# EAGLE library part 1473149-4 (library SamacSys_Parts)
DIMM Connectors .6MM 200D R/SM 1.8V DIMMSO DDR Source: Datasheet <https://www.te.com/commerce/DocumentDelivery/DDEController?Action=srchrtrv&DocNm=1473149&DocType=Customer Drawing&DocLang=English&PartCntxt=1473149-4&DocFormat=pdf>
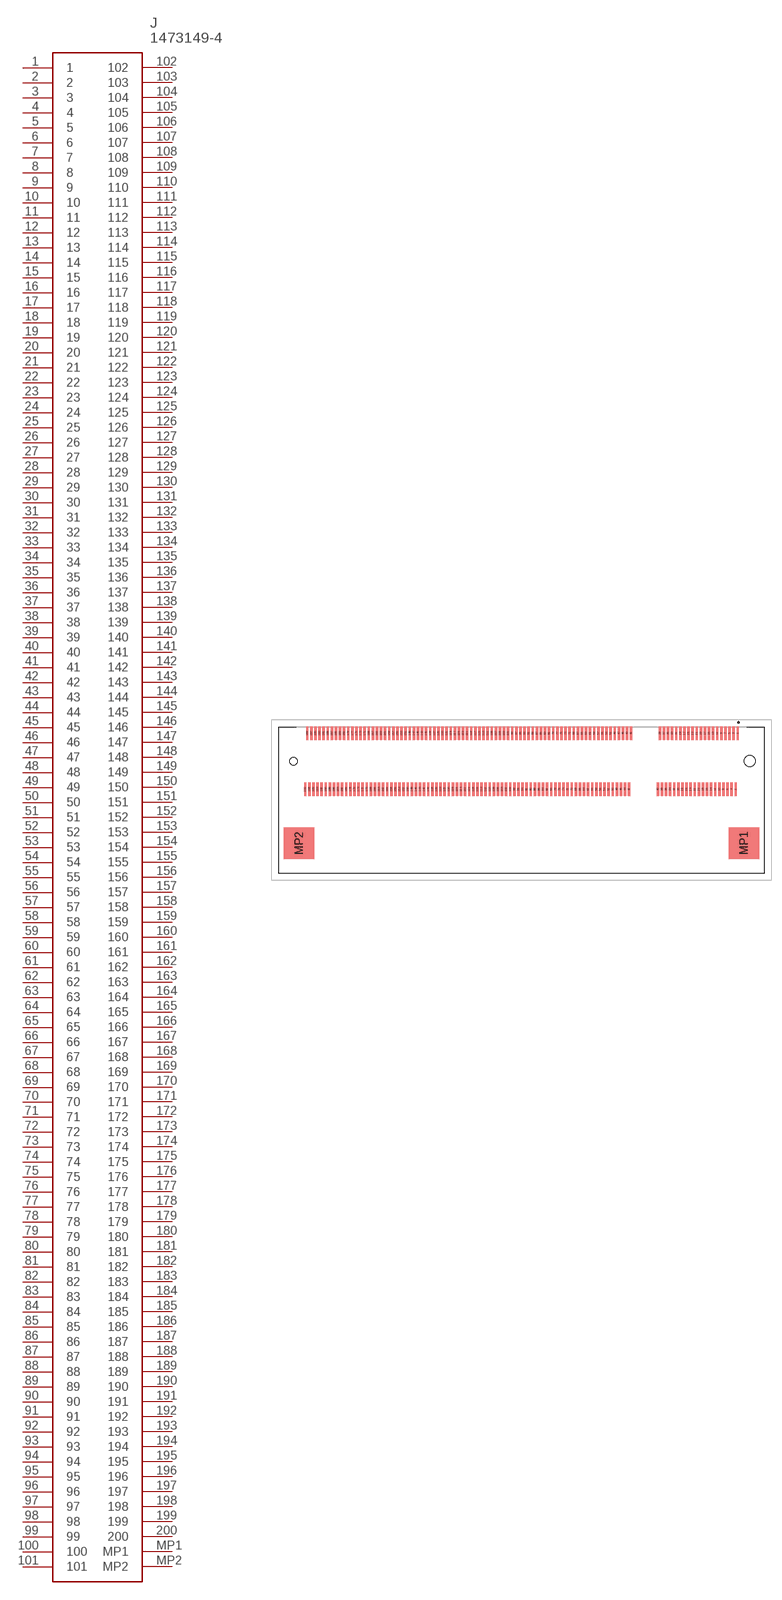
[diagram p197: symbol with the pads of 14731494; footprint 14731494]

Designator prefix J

## 1473149-4 (DESCRIPTION: DIMM Connectors .6MM 200D R/SM 1.8V DIMMSO DDR; HEIGHT: 6.23mm; MANUFACTURER_NAME: TE Connectivity; MANUFACTURER_PART_NUMBER: 1473149-4; MOUSER_PART_NUMBER: 571-1473149-4; MOUSER_PRICE-STOCK: https://www.mouser.co.uk/ProductDetail/TE-Connectivity/1473149-4?qs=iaprbs8w3G8rIdgoS7LsSQ%3D%3D)  [14731494]
1  1
2  2
3  3
4  4
5  5
6  6
7  7
8  8
9  9
10  10
11  11
12  12
13  13
14  14
15  15
16  16
17  17
18  18
19  19
20  20
21  21
22  22
23  23
24  24
25  25
26  26
27  27
28  28
29  29
30  30
31  31
32  32
33  33
34  34
35  35
36  36
37  37
38  38
39  39
40  40
41  41
42  42
43  43
44  44
45  45
46  46
47  47
48  48
49  49
50  50
51  51
52  52
53  53
54  54
55  55
56  56
57  57
58  58
59  59
60  60
61  61
62  62
63  63
64  64
65  65
66  66
67  67
68  68
69  69
70  70
71  71
72  72
73  73
74  74
75  75
76  76
77  77
78  78
79  79
80  80
81  81
82  82
83  83
84  84
85  85
86  86
87  87
88  88
89  89
90  90
91  91
92  92
93  93
94  94
95  95
96  96
97  97
98  98
99  99
100  100
101  101
102  102
103  103
104  104
105  105
106  106
107  107
108  108
109  109
110  110
111  111
112  112
113  113
114  114
115  115
116  116
117  117
118  118
119  119
120  120
121  121
122  122
123  123
124  124
125  125
126  126
127  127
128  128
129  129
130  130
131  131
132  132
133  133
134  134
135  135
136  136
137  137
138  138
139  139
140  140
141  141
142  142
143  143
144  144
145  145
146  146
147  147
148  148
149  149
150  150
151  151
152  152
153  153
154  154
155  155
156  156
157  157
158  158
159  159
160  160
161  161
162  162
163  163
164  164
165  165
166  166
167  167
168  168
169  169
170  170
171  171
172  172
173  173
174  174
175  175
176  176
177  177
178  178
179  179
180  180
181  181
182  182
183  183
184  184
185  185
186  186
187  187
188  188
189  189
190  190
191  191
192  192
193  193
194  194
195  195
196  196
197  197
198  198
199  199
200  200
MP1  MP1
MP2  MP2

## Footprint 14731494 (pad centres in mm)
1473149-4-2
smd 0.35 x 2: 1 31.65,9.825; 2 31.35,1.625; 3 31.05,9.825; 4 30.75,1.625; 5 30.45,9.825; 6 30.15,1.625; 7 29.85,9.825; 8 29.55,1.625; 9 29.25,9.825; 10 28.95,1.625; 11 28.65,9.825; 12 28.35,1.625; 13 28.05,9.825; 14 27.75,1.625; 15 27.45,9.825; 16 27.15,1.625; 17 26.85,9.825; 18 26.55,1.625; 19 26.25,9.825; 20 25.95,1.625; 21 25.65,9.825; 22 25.35,1.625; 23 25.05,9.825; 24 24.75,1.625; 25 24.45,9.825; 26 24.15,1.625; 27 23.85,9.825; 28 23.55,1.625; 29 23.25,9.825; 30 22.95,1.625; 31 22.65,9.825; 32 22.35,1.625; 33 22.05,9.825; 34 21.75,1.625; 35 21.45,9.825; 36 21.15,1.625; 37 20.85,9.825; 38 20.55,1.625; 39 20.25,9.825; 40 19.95,1.625; 41 16.05,9.825; 42 15.75,1.625; 43 15.45,9.825; 44 15.15,1.625; 45 14.85,9.825; 46 14.55,1.625; 47 14.25,9.825; 48 13.95,1.625; 49 13.65,9.825; 50 13.35,1.625; 51 13.05,9.825; 52 12.75,1.625; 53 12.45,9.825; 54 12.15,1.625; 55 11.85,9.825; 56 11.55,1.625; 57 11.25,9.825; 58 10.95,1.625; 59 10.65,9.825; 60 10.35,1.625; 61 10.05,9.825; 62 9.75,1.625; 63 9.45,9.825; 64 9.15,1.625; 65 8.85,9.825; 66 8.55,1.625; 67 8.25,9.825; 68 7.95,1.625; 69 7.65,9.825; 70 7.35,1.625; 71 7.05,9.825; 72 6.75,1.625; 73 6.45,9.825; 74 6.15,1.625; 75 5.85,9.825; 76 5.55,1.625; 77 5.25,9.825; 78 4.95,1.625; 79 4.65,9.825; 80 4.35,1.625; 81 4.05,9.825; 82 3.75,1.625; 83 3.45,9.825; 84 3.15,1.625; 85 2.85,9.825; 86 2.55,1.625; 87 2.25,9.825; 88 1.95,1.625; 89 1.65,9.825; 90 1.35,1.625; 91 1.05,9.825; 92 0.75,1.625; 93 0.45,9.825; 94 0.15,1.625; 95 -0.15,9.825; 96 -0.45,1.625; 97 -0.75,9.825; 98 -1.05,1.625; 99 -1.35,9.825; 100 -1.65,1.625; 101 -1.95,9.825; 102 -2.25,1.625; 103 -2.55,9.825; 104 -2.85,1.625; 105 -3.15,9.825; 106 -3.45,1.625; 107 -3.75,9.825; 108 -4.05,1.625; 109 -4.35,9.825; 110 -4.65,1.625; 111 -4.95,9.825; 112 -5.25,1.625; 113 -5.55,9.825; 114 -5.85,1.625; 115 -6.15,9.825; 116 -6.45,1.625; 117 -6.75,9.825; 118 -7.05,1.625; 119 -7.35,9.825; 120 -7.65,1.625; 121 -7.95,9.825; 122 -8.25,1.625; 123 -8.55,9.825; 124 -8.85,1.625; 125 -9.15,9.825; 126 -9.45,1.625; 127 -9.75,9.825; 128 -10.05,1.625; 129 -10.35,9.825; 130 -10.65,1.625; 131 -10.95,9.825; 132 -11.25,1.625; 133 -11.55,9.825; 134 -11.85,1.625; 135 -12.15,9.825; 136 -12.45,1.625; 137 -12.75,9.825; 138 -13.05,1.625; 139 -13.35,9.825; 140 -13.65,1.625; 141 -13.95,9.825; 142 -14.25,1.625; 143 -14.55,9.825; 144 -14.85,1.625; 145 -15.15,9.825; 146 -15.45,1.625; 147 -15.75,9.825; 148 -16.05,1.625; 149 -16.35,9.825; 150 -16.65,1.625; 151 -16.95,9.825; 152 -17.25,1.625; 153 -17.55,9.825; 154 -17.85,1.625; 155 -18.15,9.825; 156 -18.45,1.625; 157 -18.75,9.825; 158 -19.05,1.625; 159 -19.35,9.825; 160 -19.65,1.625; 161 -19.95,9.825; 162 -20.25,1.625; 163 -20.55,9.825; 164 -20.85,1.625; 165 -21.15,9.825; 166 -21.45,1.625; 167 -21.75,9.825; 168 -22.05,1.625; 169 -22.35,9.825; 170 -22.65,1.625; 171 -22.95,9.825; 172 -23.25,1.625; 173 -23.55,9.825; 174 -23.85,1.625; 175 -24.15,9.825; 176 -24.45,1.625; 177 -24.75,9.825; 178 -25.05,1.625; 179 -25.35,9.825; 180 -25.65,1.625; 181 -25.95,9.825; 182 -26.25,1.625; 183 -26.55,9.825; 184 -26.85,1.625; 185 -27.15,9.825; 186 -27.45,1.625; 187 -27.75,9.825; 188 -28.05,1.625; 189 -28.35,9.825; 190 -28.65,1.625; 191 -28.95,9.825; 192 -29.25,1.625; 193 -29.55,9.825; 194 -29.85,1.625; 195 -30.15,9.825; 196 -30.45,1.625; 197 -30.75,9.825; 198 -31.05,1.625; 199 -31.35,9.825; 200 -31.65,1.625
smd 4.5 x 4.6: MP1 32.55,-6.275; MP2 -32.55,-6.275
hole 1.6 at 33.4,5.725
hole 1.1 at -33.4,5.725